# Altium schematic symbol library C0603H180J5GACTU.SchLib: 2 symbols
Pins are listed as number, name and electrical type; pins without a type are passive.

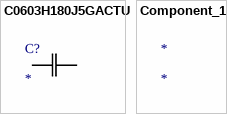
[diagram p0: symbols C0603H180J5GACTU to Component_1]

## C0603H180J5GACTU
designator C?
No Description Available; Mfr_Name: Kemet
footprint CAPC17595_87N_KEM
pins: 1, 2

## Component_1
designator *